# EAGLE library part KSZ8081MLX (library 1_spektrak)
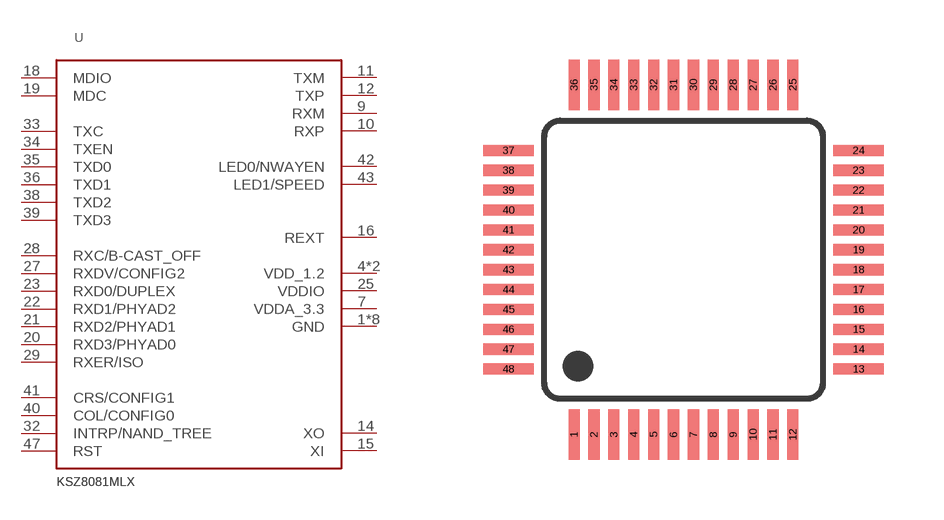
[diagram p13: symbol with the pads of ETHER_PHY; footprint ETHER_PHY]

Designator prefix U

## KSZ8081MLX  [ETHER_PHY]
1  GND  pwr
2  GND  pwr
3  GND  pwr
4  VDD_1.2  pwr
7  VDDA_3.3  pwr
9  RXM
10  RXP
11  TXM
12  TXP
13  GND  pwr
14  XO  out
15  XI  in
16  REXT  in
17  GND  pwr
18  MDIO
19  MDC
20  RXD3/PHYAD0
21  RXD2/PHYAD1
22  RXD1/PHYAD2
23  RXD0/DUPLEX
24  GND  pwr
25  VDDIO  pwr
27  RXDV/CONFIG2
28  RXC/B-CAST_OFF
29  RXER/ISO
30  GND  pwr
31  VDD_1.2  pwr
32  INTRP/NAND_TREE
33  TXC
34  TXEN
35  TXD0
36  TXD1
37  GND  pwr
38  TXD2
39  TXD3
40  COL/CONFIG0
41  CRS/CONFIG1
42  LED0/NWAYEN
43  LED1/SPEED
47  RST

## Footprint ETHER_PHY (pad centres in mm)
smd 0.279 x 1.27: 1 -2.752,-4.401; 2 -2.252,-4.401; 3 -1.752,-4.401; 4 -1.252,-4.401; 5 -0.752,-4.401; 6 -0.252,-4.401; 7 0.248,-4.401; 8 0.748,-4.401; 9 1.248,-4.401; 10 1.748,-4.401; 11 2.248,-4.401; 12 2.748,-4.401; 25 2.748,4.399; 26 2.248,4.399; 27 1.748,4.399; 28 1.248,4.399; 29 0.748,4.399; 30 0.248,4.399; 31 -0.252,4.399; 32 -0.752,4.399; 33 -1.252,4.399; 34 -1.752,4.399; 35 -2.252,4.399; 36 -2.752,4.399
smd 1.27 x 0.279: 13 4.398,-2.751; 14 4.398,-2.251; 15 4.398,-1.751; 16 4.398,-1.251; 17 4.398,-0.751; 18 4.398,-0.251; 19 4.398,0.249; 20 4.398,0.749; 21 4.398,1.249; 22 4.398,1.749; 23 4.398,2.249; 24 4.398,2.749; 37 -4.402,2.749; 38 -4.402,2.249; 39 -4.402,1.749; 40 -4.402,1.249; 41 -4.402,0.749; 42 -4.402,0.249; 43 -4.402,-0.251; 44 -4.402,-0.751; 45 -4.402,-1.251; 46 -4.402,-1.751; 47 -4.402,-2.251; 48 -4.402,-2.751